# Altium footprint library PcbLib2.PcbLib: 12 footprints
Each footprint in its own frame and in the unit in brackets; x right, y up, seen from the top. Pads: shape width x height; smd on the part's side, far side on the other; paste and mask are expansions set on the pad; w line width, h text height; cw(c..) or ccw(c..) is an arc to the next point about the centre after c.
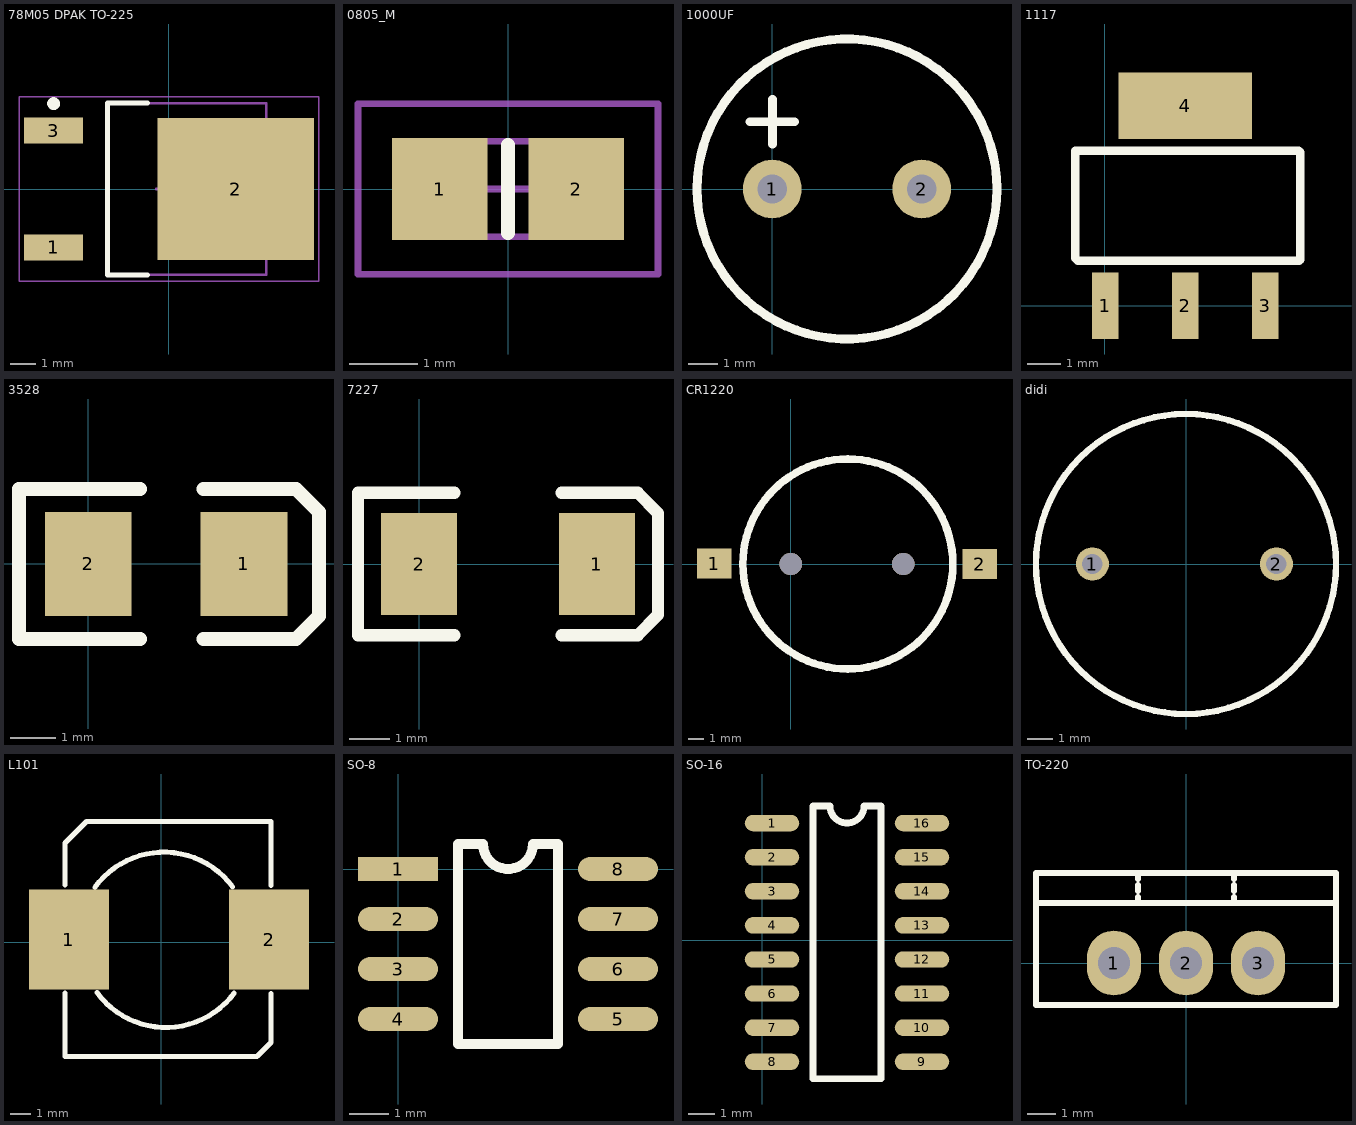
[diagram p0: the footprints below, top view; thin cyan lines are the x and y axes]

## 78M05 DPAK TO-225 [mm] "D-PAK, 3-Pads, Body 6.20x6.72mm (max), IPC Medium Density"
height 2.38
pads (3):
  rect 2.3x1 smd: 1(-4.5,-2.28) 3(-4.5,2.28)
  rect 6.1x5.55 smd: 2(2.6,0)
Top Overlay:
  circle w0.25: c-4.5,3.33 r0.125
  lines w0.2: -0.85,-3.35 -2.4,-3.35 -2.4,3.35 -0.85,3.35
Mechanical 13:
  lines w0.1: -2.4,-3.35 3.8,-3.35 3.8,3.35 -2.4,3.35 -2.4,-3.35
Mechanical 15:
  lines w0.05: -5.85,-3.6 5.85,-3.6 5.85,3.6 -5.85,3.6 -5.85,-3.6
  lines w0.1: -0.5,0 0.5,0 ; 0,-0.5 0,0.5
3D body: height 2.38, standoff 0.58, extent -2.4,-3.35 3.8,3.35

## 0805_M [mm] "Chip Resistor, Body 2.0x1.2mm, IPC Low Density"
height 0.7
pads (2):
  rect 1.4x1.5 smd: 1(-1,0) 2(1,0)
Top Overlay:
  lines w0.2: 0,-0.65 0,0.65
Mechanical 13:
  lines w0.1: -1.075,-0.7 -1.075,0.7 1.075,0.7 1.075,-0.7 -1.075,-0.7
Mechanical 15:
  lines w0.1: -0.5,0 0.5,0 ; 0,-0.5 0,0.5 ; -2.2,-1.25 -2.2,1.25 2.2,1.25 2.2,-1.25 -2.2,-1.25
3D body: height 0.7, standoff 0, extent -1.075,-0.7 1.075,0.7

## 1000UF [mm]
pads (2):
  round 2 hole 1: 1(0,0) 2(5.08,0)
Top Overlay:
  circle w0.305: c2.54,0 r5.1
  lines w0.305: -0.762,2.286 0.762,2.286 ; 0,1.524 0,3.048

## 1117 [mm]
pads (4):
  rect 0.8x2 smd: 1(0.009,-0.004) 2(2.409,-0.004) 3(4.809,-0.004)
  rect 4x2 smd: 4(2.409,5.996)
Top Overlay:
  lines w0.254: -0.893,1.424 -0.893,4.65 5.813,4.65 5.864,4.599 5.864,1.373 5.838,1.348 -0.817,1.348 -0.893,1.424

## 3528 [mil]
pads (2):
  rect 75x90 smd: 1(135,0) 2(0,0)
Top Overlay:
  lines w12: 45,-65 -60,-65 -60,65 45,65 ; 100,-65 180,-65 200,-45 200,45 180,65 100,65

## 7227 [mil]
pads (2):
  rect 75x100 smd: 1(175,0) 2(0,0)
Top Overlay:
  lines w12: 35,-70 -60,-70 -60,70 35,70 ; 140,-70 215,-70 235,-50 235,50 215,70 140,70

## CR1220 [mm]
pads (2):
  rect 2.3x2 smd: 1(-5.1,0.025) 2(12.6,0)
via 7.5,0 diameter 1.5 hole 1.5
via 0,0 diameter 1.5 hole 1.5
Top Overlay:
  circle w0.508: c3.81,0 r7

## didi [mm]
pads (2):
  round 1.3 hole 0.8: 1(-3.683,0) 2(3.556,0)
Top Overlay:
  circle w0.254: c0,0 r5.9

## L101 [mm]
pads (2):
  rect 4x5 smd: 1(-4.622,0.124) 2(5.378,0.124)
Top Overlay:
  lines w0.254: -4.826,-2.55 -4.826,-5.725 4.6,-5.725 4.775,-5.725 ; -4.826,2.85 -4.826,4.949 -3.75,6.025 5.475,6.025 5.475,2.825 ; -3.328,2.734 cw(c0.125,0.224) 3.562,2.756 ; -3.232,-2.521 ccw(c0.217,-0.003) 3.634,-2.563 ; 4.8,-5.7 5.475,-5.025 5.475,-2.575

## SO-8 [mil]
pads (8):
  rect 80x24 smd: 1(0,0)
  oval 80x24 smd: 2(0,-50) 3(0,-100) 4(0,-150) 5(220,-150) 6(220,-100) 7(220,-50) 8(220,0)
Top Overlay:
  lines w10: 60,-175 160,-175 160,25 135,25 cw(c110,25) 85,25 60,25 60,-175

## SO-16 [mil]
pads (16):
  oval 80x24 smd: 1(14,172) 2(14,122) 3(14,72) 4(14,22) 5(14,-28) 6(14,-78) 7(14,-128) 8(14,-178) 9(234,-178) 10(234,-128) 11(234,-78) 12(234,-28) 13(234,22) 14(234,72) 15(234,122) 16(234,172)
Top Overlay:
  lines w10: 74,-203 74,197 99,197 ccw(c124,197) 149,197 174,197 174,-203 74,-203

## TO-220 [mil]
pads (3):
  oval 75x90 hole 45: 1(-100,0) 2(0,0) 3(100,0)
Top Overlay:
  lines w7.87: -66.67,83.33 -66.67,91.67 ; -66.67,100 -66.67,108.33 ; -66.67,116.67 -66.67,125 ; 66.67,83.33 66.67,91.67 ; 66.67,100 66.67,108.33 ; 66.67,116.67 66.67,125 ; -208.33,83.33 -208.33,125 208.33,125 208.33,83.33 ; -208.33,83.33 -208.33,-58.33 208.33,-58.33 208.33,83.33 ; -208.33,83.33 208.33,83.33